# Altium schematic symbol library XTR117.SchLib: 1 symbol
Pins are listed as number, name and electrical type; pins without a type are passive.

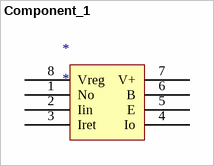
[diagram p0: symbol Component_1]

## Component_1
designator *
pins: 1 No, 2 Iin, 3 Iret, 4 Io, 5 E, 6 B, 7 V+, 8 Vreg